# Altium schematic symbol library TPS7A4701RGW.SchLib: 1 symbol
Pins are listed as number, name and electrical type; pins without a type are passive.

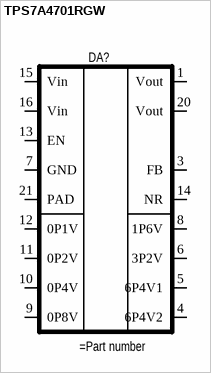
[diagram p0: symbol TPS7A4701RGW]

## TPS7A4701RGW
designator DA?
RF LDO Voltage Regulator
pins: 1 Vout, 3 FB, 4 6P4V2, 5 6P4V1, 6 3P2V, 7 GND, 8 1P6V, 9 0P8V, 10 0P4V, 11 0P2V, 12 0P1V, 13 EN, 14 NR, 15 Vin, 16 Vin, 20 Vout, 21 PAD